# EAGLE library part LT8602_LT8602 (library mainboard)
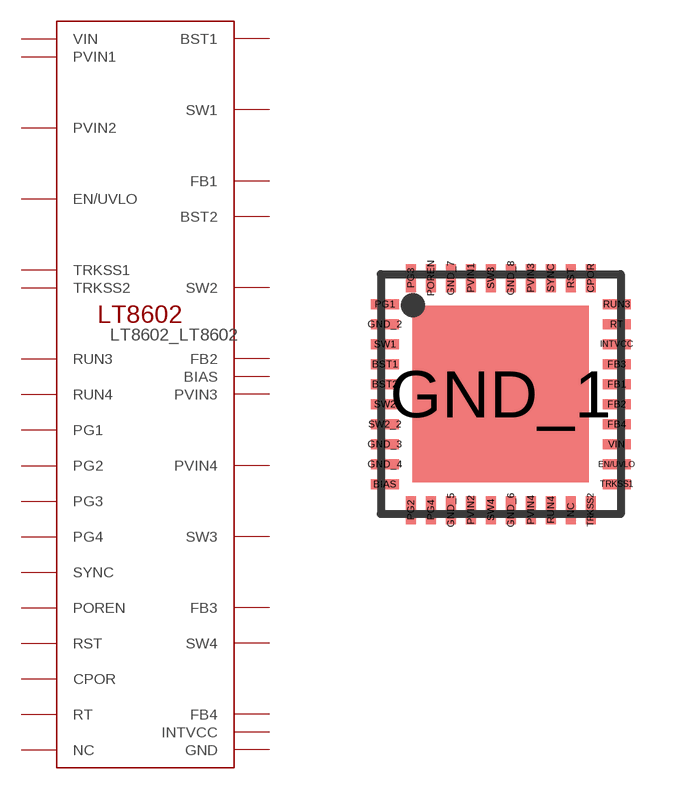
[diagram p4: symbol with the pads of LT8602_LT8602; footprint LT8602_LT8602]

Designator prefix -

## LT8602_LT8602  [LT8602_LT8602]
BIAS  BIAS
BST1  BST1
BST2  BST2
CPOR  CPOR
EN/UVLO  EN/UVLO
FB1  FB1
FB2  FB2
FB3  FB3
FB4  FB4
GND_1  GND
GND_2  GND
GND_3  GND
GND_4  GND
GND_5  GND
GND_6  GND
GND_7  GND
GND_8  GND
INTVCC  INTVCC
NC  NC  nc
PG1  PG1
PG2  PG2
PG3  PG3
PG4  PG4
POREN  POREN
PVIN1  PVIN1
PVIN2  PVIN2
PVIN3  PVIN3
PVIN4  PVIN4
RST  RST
RT  RT
RUN3  RUN3
RUN4  RUN4
SW1  SW1
SW2  SW2
SW2_2  SW2
SW3  SW3
SW4  SW4
SYNC  SYNC
TRKSS1  TRKSS1
TRKSS2  TRKSS2
VIN  VIN

## Footprint LT8602_LT8602 (pad centres in mm)
smd 0.7 x 0.25: BIAS -2.9,-2.25; BST1 -2.9,0.75; BST2 -2.9,0.25; EN/UVLO 2.9,-1.75; FB1 2.9,0.25; FB2 2.9,-0.25; FB3 2.9,0.75; FB4 2.9,-0.75; GND_2 -2.9,1.75; GND_3 -2.9,-1.25; GND_4 -2.9,-1.75; INTVCC 2.9,1.25; PG1 -2.9,2.25; RT 2.9,1.75; RUN3 2.9,2.25; SW1 -2.9,1.25; SW2 -2.9,-0.25; SW2_2 -2.9,-0.75; TRKSS1 2.9,-2.25; VIN 2.9,-1.25
smd 0.25 x 0.7: CPOR 2.25,2.9; GND_5 -1.25,-2.9; GND_6 0.25,-2.9; GND_7 -1.25,2.9; GND_8 0.25,2.9; NC 1.75,-2.9; PG2 -2.25,-2.9; PG3 -2.25,2.9; PG4 -1.75,-2.9; POREN -1.75,2.9; PVIN1 -0.75,2.9; PVIN2 -0.75,-2.9; PVIN3 0.75,2.9; PVIN4 0.75,-2.9; RST 1.75,2.9; RUN4 1.25,-2.9; SW3 -0.25,2.9; SW4 -0.25,-2.9; SYNC 1.25,2.9; TRKSS2 2.25,-2.9
smd 4.42 x 4.42: GND_1 0,0